# EAGLE library part PTA3043-2015CPB103 (library PTA3043-2015CPB103)
Slide Potentiometers 15mm Shaft 10K Ohms Sgl Gang Met Lev Lin Source: Datasheet <https://www.bourns.com/docs/Product-Datasheets/pta.pdf>
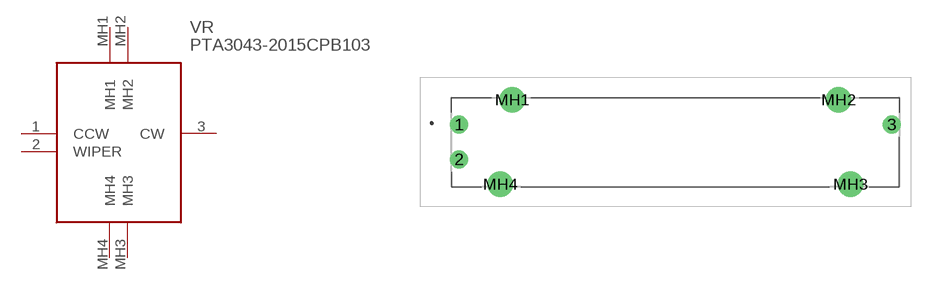
[diagram p0: symbol with the pads of PTA30432015CPB103; footprint PTA30432015CPB103]

Designator prefix VR

## PTA3043-2015CPB103 (Description: Slide Potentiometers 15mm Shaft 10K Ohms Sgl Gang Met Lev Lin; Height: 21.5mm; Manufacturer_Name: Bourns; Manufacturer_Part_Number: PTA3043-2015CPB103)  [PTA30432015CPB103]
1  CCW
2  WIPER
3  CW
MH1  MH1
MH2  MH2
MH3  MH3
MH4  MH4

## Footprint PTA30432015CPB103 (pad centres in mm)
PTA3043-2015CPB103-1
drill 1.2 pad 1.8: 1 0,0; 2 0,-3.5; 3 43.5,0
drill 1.7 pad 2.55: MH1 5.35,2.5; MH2 38.15,2.5; MH3 39.35,-6; MH4 4.15,-6